# Altium footprint library Driver.PcbLib: 19 footprints (part 1 of 2)
Each footprint in its own frame and in the unit in brackets; x right, y up, seen from the top. Pads: shape width x height; smd on the part's side, far side on the other; paste and mask are expansions set on the pad; w line width, h text height; cw(c..) or ccw(c..) is an arc to the next point about the centre after c.
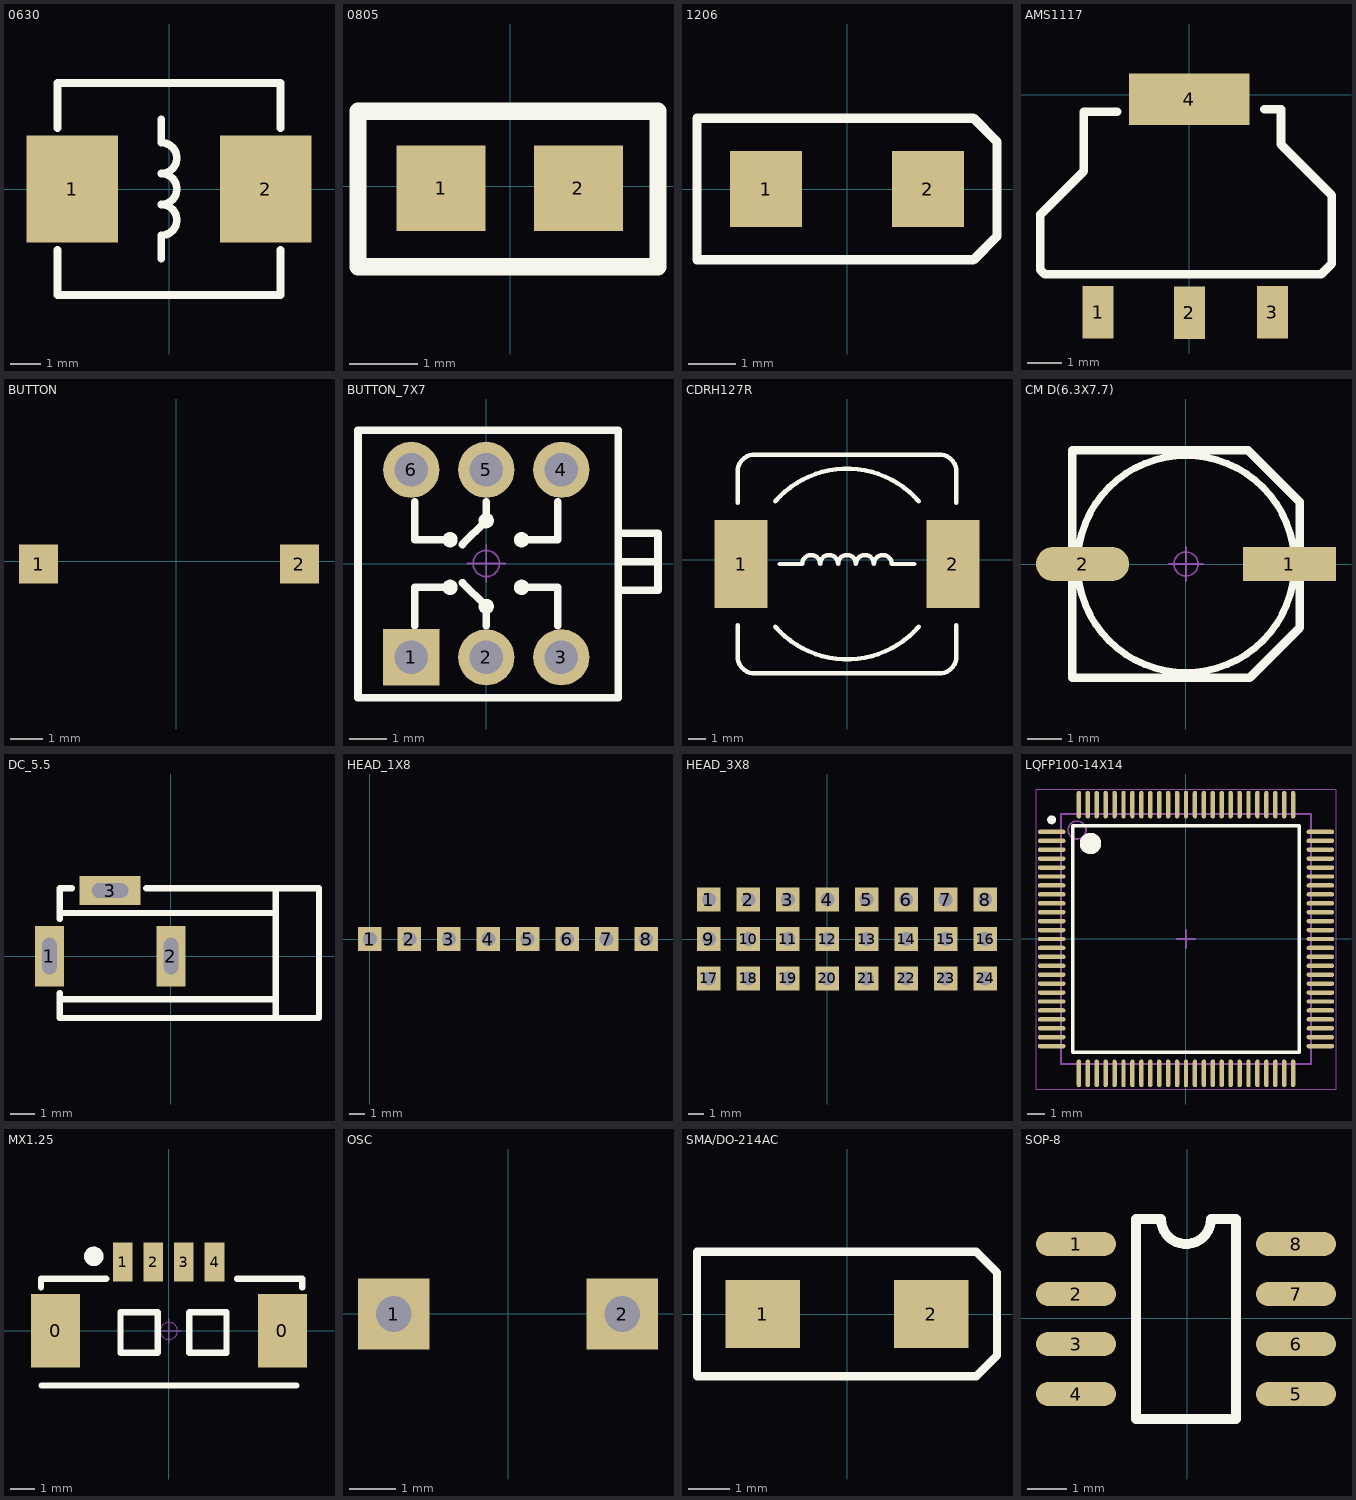
[diagram p0: the footprints below, top view; thin cyan lines are the x and y axes]

## 0630 [mm] "电感"
pads (2):
  rect 3x3.5 smd: 1(-3.175,0) 2(3.175,0)
Top Overlay:
  lines w0.254: -3.658,-2.007 -3.658,-3.48 3.658,-3.48 3.658,-2.007 ; -3.658,2.007 -3.658,3.48 3.658,3.48 3.658,2.007 ; -0.254,-2.286 -0.254,-1.524 ccw(c-0.254,-1.016) -0.254,-0.508 ccw(c-0.254,0) -0.254,0.508 ccw(c-0.254,1.016) -0.254,1.524 -0.254,2.286

## 0805 [mm]
pads (2):
  rect 1.3x1.24 smd: 1(-1.01,-0.03) 2(0.99,-0.03)
Top Overlay:
  lines w0.254: -2.22,-1.173 2.149,-1.173 2.149,1.093 -2.22,1.093 -2.22,-1.173

## 1206 [mm]
pads (2):
  rect 1.52x1.6 smd: 1(-1.72,0) 2(1.7,0)
Top Overlay:
  lines w0.2: -3.18,-1.5 2.66,-1.5 3.16,-1 3.16,1 2.66,1.5 -3.18,1.5 -3.18,0 -3.18,-1.5

## AMS1117 [mm]
pads (4):
  rect 0.9x1.524 smd: 1(-2.65,-6.307) 2(0,-6.327) 3(2.41,-6.307)
  rect 3.5x1.5 smd: 4(0,-0.127)
Top Overlay:
  lines w0.254: -2.68,-0.487 -2.1,-0.487 -3.07,-0.487 -3.07,-2.217 -4.33,-3.477 -4.33,-5.077 -4.2,-5.207 3.83,-5.207 4.13,-4.907 4.13,-2.917 2.65,-1.437 2.65,-0.787 ; 2.18,-0.417 2.66,-0.417 2.66,-1.387 2.66,-0.807

## BUTTON [mm]
pads (2):
  rect 1.2x1.2 smd: 1(-4.22,-0.08) 2(3.78,-0.08)

## BUTTON_7X7 [mm] "拨动开关"
pads (6):
  rect 1.5x1.5 hole 0.9: 1(-2,-2.5)
  round 1.5 hole 0.9: 2(0,-2.5) 3(2,-2.5) 4(2,2.5) 5(0,2.5) 6(-2,2.5)
Top Overlay:
  circle w0.254: c0.94,0.635 r0.076
  circle w0.254: c-0.965,0.635 r0.076
  circle w0.254: c0,1.143 r0.076
  circle w0.254: c0,-1.143 r0.076
  circle w0.254: c-0.965,-0.635 r0.076
  circle w0.254: c0.94,-0.635 r0.076
  lines w0.203: -1.905,-1.651 -1.905,-0.635 -0.889,-0.635 ; -1.905,1.651 -1.905,0.635 -0.889,0.635 ; -0.635,-0.508 0,-1.143 0,-1.651 ; -0.635,0.508 0,1.143 0,1.651 ; 1.016,-0.635 1.905,-0.635 1.905,-1.651 ; 1.016,0.635 1.905,0.635 1.905,1.651 ; 3.514,0.05 4.579,0.05 ; 3.563,-0.712 4.579,-0.712 4.579,0.812 3.563,0.812 ; -3.42,-3.581 -3.42,3.556 3.514,3.556 3.514,2.54 3.514,-3.581 -3.42,-3.581
Mechanical 15:
  circle w0.05: c0,0 r0.35
  lines w0.05: -0.5,0 0.5,0 ; 0,-0.5 0,0.5

## CDRH127R [mm] "电感"
pads (2):
  rect 3x5 smd: 1(-6,-0.254) 2(6,-0.254)
Top Overlay:
  lines w0.254: -6.2,-3.729 -6.2,-5.484 ccw(c-5.23,-5.484) -5.23,-6.454 5.23,-6.454 ccw(c5.23,-5.484) 6.2,-5.484 6.2,-3.729 ; -6.2,3.221 -6.2,4.976 cw(c-5.23,4.976) -5.23,5.946 5.23,5.946 cw(c5.23,4.976) 6.2,4.976 6.2,3.221 ; -4.064,-3.81 ccw(c0,-0.254) 4.064,-3.81 ; -4.064,3.302 cw(c0,-0.254) 4.064,3.302 ; -3.81,-0.254 -2.54,-0.254 cw(c-2.032,-0.254) -1.524,-0.254 cw(c-1.016,-0.254) -0.508,-0.254 cw(c0,-0.254) 0.508,-0.254 cw(c1.016,-0.254) 1.524,-0.254 cw(c2.032,-0.254) 2.54,-0.254 3.81,-0.254

## CM D(6.3X7.7) [mm]
pads (2):
  rect 2.7x1 smd: 1(3,0)
  oval 2.7x1 smd: 2(-3,0)
Top Overlay:
  circle w0.2: c0,0 r3.15
  lines w0.254: -3.3,-3.3 -3.3,3.3 1.8,3.3 3.3,1.8 3.3,-1.85 1.85,-3.3 -3.3,-3.3
Mechanical 15:
  circle w0.05: c0,0 r0.35
  lines w0.05: -0.5,0 0.5,0 ; 0,-0.5 0,0.5

## DC_5.5 [mm]
pads (3):
  rect 1.2x2.5 hole 0.6 slot 1.5 at 90 deg: 1(-5,0) 2(0,0)
  rect 2.5x1.2 hole 0.6 slot 1.5 at 0 deg: 3(-2.5,2.7)
Top Overlay:
  lines w0.254: -4.572,-1.778 4.318,-1.778 ; -4.572,-1.524 -4.572,-2.54 6.096,-2.54 6.096,2.794 -1.016,2.794 ; -4.572,1.524 -4.572,2.794 -4.064,2.794 ; -4.572,1.778 4.318,1.778 ; 4.318,-2.54 4.318,-1.778 ; 4.318,2.794 4.318,1.778 ; 4.318,-1.778 4.318,1.778

## HEAD_1X8 [mil]
pads (8):
  rect 60x60 hole 35.43: 1(0,0) 2(100,0) 3(200,0) 4(300,0) 5(400,0) 6(500,0) 7(600,0) 8(700,0)

## HEAD_3X8 [mil]
pads (24):
  rect 60x60 hole 35.43: 1(-300,100) 2(-200,100) 3(-100,100) 4(0,100) 5(100,100) 6(200,100) 7(300,100) 8(400,100) 9(-300,0) 10(-200,0) 11(-100,0) 12(0,0) 13(100,0) 14(200,0) 15(300,0) 16(400,0) 17(-300,-100) 18(-200,-100) 19(-100,-100) 20(0,-100) 21(100,-100) 22(200,-100) 23(300,-100) 24(400,-100)

## LQFP100-14X14 [mm]
pads (100):
  oval 1.55x0.25 smd: 1(-7.525,6) 2(-7.525,5.5) 3(-7.525,5) 4(-7.525,4.5) 5(-7.525,4) 6(-7.525,3.5) 7(-7.525,3) 8(-7.525,2.5) 9(-7.525,2) 10(-7.525,1.5) 11(-7.525,1) 12(-7.525,0.5) 13(-7.525,0) 14(-7.525,-0.5) 15(-7.525,-1) 16(-7.525,-1.5) 17(-7.525,-2) 18(-7.525,-2.5) 19(-7.525,-3) 20(-7.525,-3.5) 21(-7.525,-4) 22(-7.525,-4.5) 23(-7.525,-5) 24(-7.525,-5.5) 25(-7.525,-6) 51(7.525,-6) 52(7.525,-5.5) 53(7.525,-5) 54(7.525,-4.5) 55(7.525,-4) 56(7.525,-3.5) 57(7.525,-3) 58(7.525,-2.5) 59(7.525,-2) 60(7.525,-1.5) 61(7.525,-1) 62(7.525,-0.5) 63(7.525,0) 64(7.525,0.5) 65(7.525,1) 66(7.525,1.5) 67(7.525,2) 68(7.525,2.5) 69(7.525,3) 70(7.525,3.5) 71(7.525,4) 72(7.525,4.5) 73(7.525,5) 74(7.525,5.5) 75(7.525,6)
  oval 0.25x1.55 smd: 26(-6,-7.525) 27(-5.5,-7.525) 28(-5,-7.525) 29(-4.5,-7.525) 30(-4,-7.525) 31(-3.5,-7.525) 32(-3,-7.525) 33(-2.5,-7.525) 34(-2,-7.525) 35(-1.5,-7.525) 36(-1,-7.525) 37(-0.5,-7.525) 38(0,-7.525) 39(0.5,-7.525) 40(1,-7.525) 41(1.5,-7.525) 42(2,-7.525) 43(2.5,-7.525) 44(3,-7.525) 45(3.5,-7.525) 46(4,-7.525) 47(4.5,-7.525) 48(5,-7.525) 49(5.5,-7.525) 50(6,-7.525) 76(6,7.525) 77(5.5,7.525) 78(5,7.525) 79(4.5,7.525) 80(4,7.525) 81(3.5,7.525) 82(3,7.525) 83(2.5,7.525) 84(2,7.525) 85(1.5,7.525) 86(1,7.525) 87(0.5,7.525) 88(0,7.525) 89(-0.5,7.525) 90(-1,7.525) 91(-1.5,7.525) 92(-2,7.525) 93(-2.5,7.525) 94(-3,7.525) 95(-3.5,7.525) 96(-4,7.525) 97(-4.5,7.525) 98(-5,7.525) 99(-5.5,7.525) 100(-6,7.525)
Top Overlay:
  circle w0.6: c-5.35,5.35 r0.3
  circle w0.25: c-7.525,6.675 r0.125
  lines w0.2: -6.35,-6.35 6.35,-6.35 6.35,6.35 -6.35,6.35 -6.35,-6.35
Mechanical 13:
  circle w0.1: c-6.1,6.1 r0.5
  lines w0.1: -7,-7 7,-7 7,7 -7,7 -7,-7
Mechanical 15:
  lines w0.05: -8.4,-8.4 8.4,-8.4 8.4,8.4 -8.4,8.4 -8.4,-8.4
  lines w0.1: -0.5,0 0.5,0 ; 0,-0.5 0,0.5

## MX1.25 [mm] "侧卧"
pads (6):
  rect 2x3 smd: 0(-4.632,0) 0(4.632,0)
  rect 0.8x1.6 smd: 1(-1.889,2.811) 2(-0.639,2.811) 3(0.611,2.811) 4(1.861,2.811)
Top Overlay:
  circle w0.4: c-3.074,3.048 r0.2
  lines w0.254: -5.233,1.778 -5.233,2.134 -2.566,2.134 ; -5.206,-2.228 5.201,-2.228 ; 2.782,2.134 5.449,2.134 5.449,1.778 ; -1.982,-0.889 -1.982,0.762 -0.458,0.762 -0.458,-0.889 -1.982,-0.889 ; 0.826,-0.889 0.826,0.762 2.35,0.762 2.35,-0.889 0.826,-0.889
Mechanical 15:
  circle w0.05: c0,0 r0.35
  lines w0.05: -0.5,0 0.5,0 ; 0,-0.5 0,0.5
3D body "MOLEX1.25-WS-4P.STEP": height 3.4, standoff 0, extent -5.075,-2.1 5.075,3.09

## OSC [mil]
pads (2):
  rect 60x60 hole 30: 1(-96.06,-0.39) 2(96.06,-0.39)

## SMA/DO-214AC [mm]
pads (2):
  rect 1.8x1.63 smd: 1(-2.045,0) 2(2.025,0)
Top Overlay:
  lines w0.2: -3.63,-1.5 3.11,-1.5 3.61,-1 3.61,1 3.11,1.5 -3.63,1.5 -3.63,0 -3.63,-1.5

## SOP-8 [mil]
pads (8):
  oval 80x24 smd: 1(-111,74) 2(-111,24) 3(-111,-26) 4(-111,-76) 5(109,-76) 6(109,-26) 7(109,24) 8(109,74)
Top Overlay:
  lines w10: -51,-101 -51,99 -26,99 ccw(c-1,99) 24,99 49,99 49,-101 -51,-101